# Altium schematic symbol library 1747786-1 sch.SchLib: 1 symbol
Pins are listed as number, name and electrical type; pins without a type are passive.

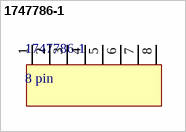
[diagram p0: symbol 1747786-1]

## 1747786-1
designator 1747786-1, comment 8 pin
DC Jack Connectors, Board-to-Board, 8 Position, 2mm [.079in] Centerline, Receptacle, 30VDC Operating Voltage, Vertical, Printed Circuit Board
footprint 1747786-1
pins: 1, 2, 3, 4, 5, 6, 7, 8